# Altium schematic symbol library XT90PB-F.Schlib: 1 symbol
Pins are listed as number, name and electrical type; pins without a type are passive.

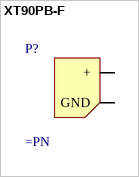
[diagram p0: symbol XT90PB-F]

## XT90PB-F
designator P?
pins: 1 +, 2 GND